# EAGLE library part LM18200T (library national-semiconductor)
3A, 55V H-Bridge Motor Control SourcE: http://cache.national.com/ds/LM/LMD18200.pdf
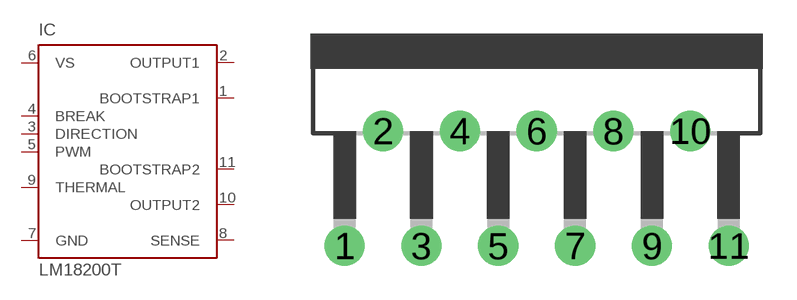
[diagram p1: symbol with the pads of TO-220-11; footprint TO-220-11]

Designator prefix IC

## LM18200T  [TO-220-11]
1  BOOTSTRAP1  in
2  OUTPUT1  out
3  DIRECTION  in
4  BREAK  in
5  PWM  in
6  VS  pwr
7  GND  pwr
8  SENSE  out
9  THERMAL  out
10  OUTPUT2  out
11  BOOTSTRAP2  in

## Footprint TO-220-11 (pad centres in mm)
11-Lead TO-220 Power Package (T) NS Package Number TA11B Source: http://cache.national.com/ds/LM/LMD18200.pdf
drill 1.1 pad 1.778 round: 1 -8.5,-9.37; 2 -6.8,-4.29; 3 -5.1,-9.37; 4 -3.4,-4.29; 5 -1.7,-9.37; 6 0,-4.29; 7 1.7,-9.37; 8 3.4,-4.29; 9 5.1,-9.37; 10 6.8,-4.29; 11 8.5,-9.37